# Altium footprint library ATmega1284p_breakout.PcbLib: 4 footprints
Each footprint in its own frame and in the unit in brackets; x right, y up, seen from the top. Pads: shape width x height; smd on the part's side, far side on the other; paste and mask are expansions set on the pad; w line width, h text height; cw(c..) or ccw(c..) is an arc to the next point about the centre after c.
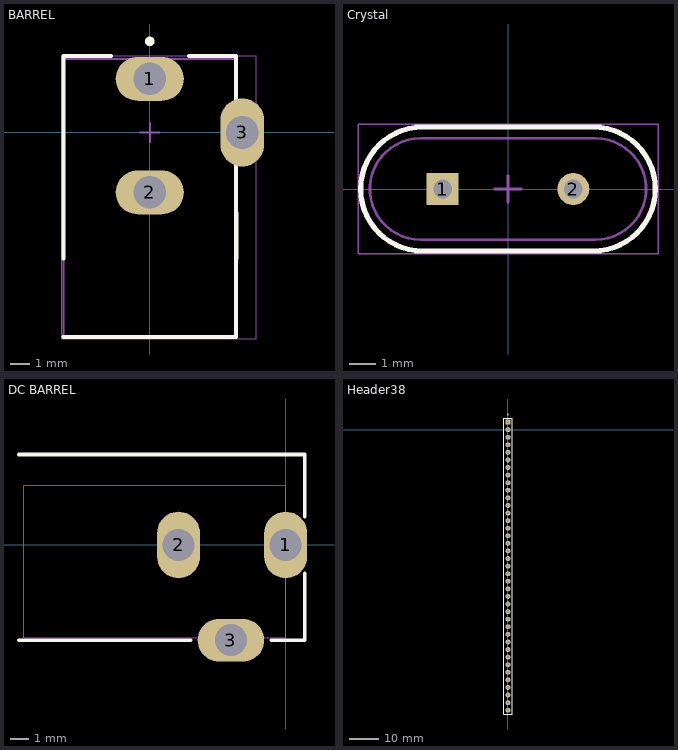
[diagram p0: the footprints below, top view; thin cyan lines are the x and y axes]

## BARREL [mil]
pads (3):
  oval 140x90 hole 67: 1(0,110) 2(0,-123.03)
  oval 90x140 hole 67: 3(190,0)
Top Overlay:
  circle w9.84: c0,187 r4.92
  lines w7.87: -177.17,-420.28 177.17,-420.28 177.17,-80.71 ; -177.17,-259.03 -177.17,156.77 -80,156.77 ; 80,156.77 177.17,156.77 177.17,38.97 ; 177.17,-66.03 178,-259.03
Mechanical 13:
  lines w3.94: -177.17,-420.28 -177.17,150.59 177.17,150.59 177.17,-420.28 -177.17,-420.28
Mechanical 15:
  lines w1.97: -181.1,-424.21 218.5,-424.21 218.5,157.48 -181.1,157.48 -181.1,-424.21
  lines w3.94: -19.68,0 19.68,0 ; 0,-19.68 0,19.68
3D body "SW3dPS-PowerJack-2.5x5.7mm.STEP": height 433.07, standoff -137.8, extent -175,-456.21 195.08,142.21

## Crystal [mm]
pads (2):
  rect 1.2x1.2 hole 0.7: 1(-2.45,0)
  round 1.2 hole 0.7: 2(2.45,0)
Top Overlay:
  lines w0.2: -3.2,-2.325 cw(c-3.2,0) -3.2,2.325 3.2,2.325 cw(c3.2,0) 3.2,-2.325 -3.2,-2.325
Mechanical 13:
  lines w0.1: -3.277,-1.9 cw(c-3.277,0) -3.277,1.9 3.277,1.9 cw(c3.277,0) 3.277,-1.9 -3.277,-1.9 ; -3.2,-2.325 cw(c-3.2,0) -3.2,2.325 3.2,2.325 cw(c3.2,0) 3.2,-2.325 -3.2,-2.325
Mechanical 15:
  lines w0.05: -5.625,-2.425 5.625,-2.425 5.625,2.425 -5.625,2.425 -5.625,-2.425
  lines w0.1: -0.5,0 0.5,0 ; 0,-0.5 0,0.5
3D body: height 1, standoff 0, extent -5.525,-2.325 5.525,2.325
3D body: height 3.5, standoff 0, extent -5.177,-1.901 5.177,1.901
3D body: height 0, standoff -13.5, extent 2.227,-0.224 2.675,0.225
3D body: height 0, standoff -13.5, extent -2.673,-0.224 -2.225,0.225

## DC BARREL [mil]
pads (3):
  oval 90x140 hole 67: 1(0,0) 2(-225,0)
  oval 140x90 hole 67: 3(-115,-200)
Top Overlay:
  lines w7.87: -560,-200 -200,-200 ; -560,190 40,190 40,60 ; -30,-200 40,-200 40,-60
Mechanical 27:
  lines w0: -550,-195 0,-195 0,125 -550,125 -550,-195
3D body "SW3dPS-PowerJack-2.5x5.7mm.STEP": height 433.07, standoff -137.8, extent -569.43,-190.04 29,180.04

## Header38 [mil]
pads (39):
  rect 64x64 hole 39: 0(0,100)
  round 64 hole 39: 1(0,0) 2(0,-100) 3(0,-200) 4(0,-300) 5(0,-400) 6(0,-500) 7(0,-600) 8(0,-700) 9(0,-800) 10(0,-900) 11(0,-1000) 12(0,-1100) 13(0,-1200) 14(0,-1300) 15(0,-1400) 16(0,-1500) 17(0,-1600) 18(0,-1700) 19(0,-1800) 20(0,-1900) 21(0,-2000) 22(0,-2100) 23(0,-2200) 24(0,-2300) 25(0,-2400) 26(0,-2500) 27(0,-2600) 28(0,-2700) 29(0,-2800) 30(0,-2900) 31(0,-3000) 32(0,-3100) 33(0,-3200) 34(0,-3300) 35(0,-3400) 36(0,-3500) 37(0,-3600) 38(0,-3700)
Top Overlay:
  circle w12: c0,200 r6
  lines w7.87: -55.12,-3750 -55.12,150 55.12,150 55.12,-3750 -55.12,-3750